# EAGLE library part 6490XX21122_64902221122 (library Wurth_Connectors_WR-MPC4)
WR-MPC4 4.20 mm Male Dual Row Vertical Header KIND PROPERTIES: Pitch:4.2 mm Gender:Male MATERIAL PROPERTIES: Insulator Material :PA66 Insulator Flammability Rating:UL94 V-0 Insulator Color:White Contact Material:Copper Alloy Contact Plating:Tin over Nickel Contact Type:Stamped GENERAL INFORMATION Operating Temperature:-40 up to +105 °C Working Voltage:600V (AC) Withstanding Voltage:1500 V (AC) Contact Resistance:10 mΩ RISO:1000 MΩ PACKAGING PROPERTIES Packaging:Tray <https://katalog.we-online.com/media/images/v2/o33113v209%20Family_WR-MCP4_6490xx21122.jpg> Details see: https://katalog.we-online.com/en/em/MPC4_4_20_MALE_DUAL_ROW_VERTICAL_HEADER_6490XX21122 Updated by Yingchun,Shan 2019-11-12 2019 (C) Würth Elektronik
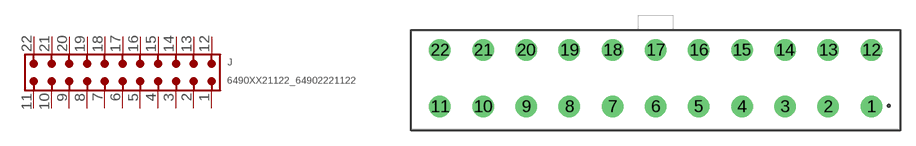
[diagram p2: symbol with the pads of 64902221122; footprint 64902221122]

Designator prefix J

## 6490XX21122_64902221122 (CONTACT-RESISTANCE: 10mOhm; DATASHEET-URL: https://www.we-online.com/catalog/datasheet/64902221122.pdf; GENDER: Male; L: 47.4mm; MATE-WITH: WR-MPC4 4.20 mm Female Dual Row Plug; MOUNT: THT; PACKAGING: Tray; PART-NUMBER: 64902221122; PCB-CABLE-PANEL: PCB; PINS: 22; PITCH: 4.2mm; ROWS: Dual; TOL-R: max.; TYPE: Vertical; WORKING-VOLTAGE: 600V(AC))  [64902221122]
1  1  pas
2  2  pas
3  3  pas
4  4  pas
5  5  pas
6  6  pas
7  7  pas
8  8  pas
9  9  pas
10  10  pas
11  11  pas
12  12  pas
13  13  pas
14  14  pas
15  15  pas
16  16  pas
17  17  pas
18  18  pas
19  19  pas
20  20  pas
21  21  pas
22  22  pas

## Footprint 64902221122 (pad centres in mm)
WR-MPC4 4.20 mm Male Dual Row Vertical Header,22 Pins
drill 1.4: 1 21,-2.55; 2 16.8,-2.55; 3 12.6,-2.55; 4 8.4,-2.55; 5 4.2,-2.55; 6 0,-2.55; 7 -4.2,-2.55; 8 -8.4,-2.55; 9 -12.6,-2.55; 10 -16.8,-2.55; 11 -21,-2.55; 12 21,2.95; 13 16.8,2.95; 14 12.6,2.95; 15 8.4,2.95; 16 4.2,2.95; 17 0,2.95; 18 -4.2,2.95; 19 -8.4,2.95; 20 -12.6,2.95; 21 -16.8,2.95; 22 -21,2.95